# Altium footprint library CustomCase1.PcbLib: 6 footprints
Each footprint in its own frame and in the unit in brackets; x right, y up, seen from the top. Pads: shape width x height; smd on the part's side, far side on the other; paste and mask are expansions set on the pad; w line width, h text height; cw(c..) or ccw(c..) is an arc to the next point about the centre after c.
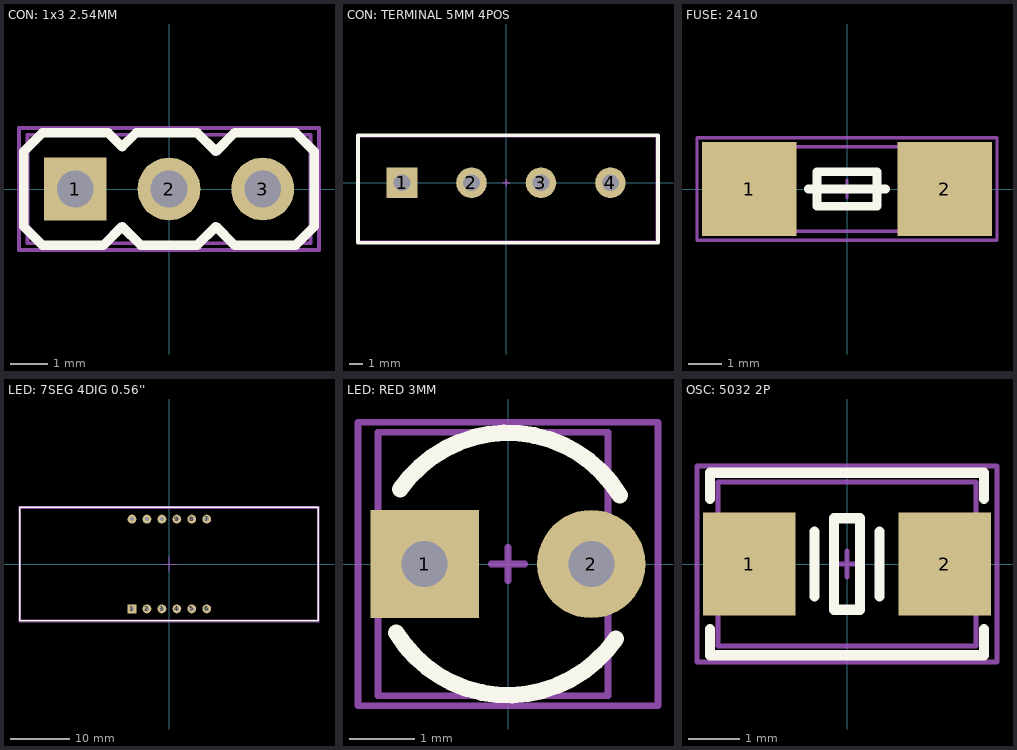
[diagram p0: the footprints below, top view; thin cyan lines are the x and y axes]

## CON: 1x3 2.54MM [mm]
pads (3):
  rect 1.7x1.7 hole 1: 1(-2.54,0)
  round 1.7 hole 1: 2(0,0) 3(2.54,0)
Top Overlay:
  lines w0.254: -3.937,-1.016 -3.429,-1.524 -1.778,-1.524 -1.27,-1.016 -0.762,-1.524 -0.254,-1.524 0.762,-1.524 1.27,-1.016 1.778,-1.524 3.429,-1.524 3.937,-1.016 3.937,1.016 3.429,1.524 2.413,1.524 1.778,1.524 1.27,1.016 0.762,1.524 -0.889,1.524 -1.27,1.143 -1.651,1.524 -3.429,1.524 -3.937,1.016 -3.937,-1.016
Top Assy:
  lines w0.1: -3.835,-1.473 3.835,-1.473 3.835,1.473 -3.835,1.473 -3.835,-1.473
Size Area:
  lines w0.1: -0.381,0 0.381,0 ; 0,-0.381 0,0.381 ; -4.064,-1.651 4.064,-1.651 4.064,1.651 -4.064,1.651 -4.064,-1.651
3D body "User Library-PinHeaderX3.STEP": height 8.51, standoff -3.68, extent -3.81,-1.46 3.81,1.46

## CON: TERMINAL 5MM 4POS [mm]
pads (4):
  rect 2.2x2.2 hole 1.2: 1(-7.5,0)
  round 2.2 hole 1.2: 2(-2.5,0) 3(2.5,0) 4(7.5,0)
Top Overlay:
  lines w0.254: -10.668,-4.318 10.922,-4.318 10.922,3.429 -10.668,3.429 -10.668,-4.318
Top Assy:
  lines w0.1: -10.613,-4.198 10.787,-4.198 10.787,3.302 -10.613,3.302 -10.613,-4.198
Size Area:
  lines w0.1: -0.254,0 0.254,0 ; 0,-0.254 0,0.254 ; -10.668,-4.318 -10.668,3.429 10.922,3.429 10.922,-4.318 -10.668,-4.318
3D body "terminal_blocks_a-tb508-tc03.stp": height 9.95, standoff -3.4, extent -10.613,-4.198 5.787,3.302
3D body "terminal_blocks_a-tb508-tc03.stp": height 9.95, standoff -3.4, extent -5.613,-4.198 10.787,3.302

## FUSE: 2410 [mm]
pads (2):
  rect 2.8x2.8 smd: 1(-2.9,0) 2(2.9,0)
Top Overlay:
  lines w0.254: -1.143,0 1.143,0 ; -0.889,-0.508 -0.889,0.508 0.889,0.508 0.889,-0.508 -0.889,-0.508
Top Assy:
  lines w0.1: -3.09,-1.25 -3.09,1.25 3.09,1.25 3.09,-1.25 -3.09,-1.25
Size Area:
  lines w0.1: -0.254,0 0.254,0 ; 0,-0.254 0,0.254 ; -4.445,-1.524 4.445,-1.524 4.445,1.524 -4.445,1.524 -4.445,-1.524
3D body "User Library-2410 fuse.step": height 2.15, standoff -0.01, extent -3.09,-1.25 3.09,1.25

## LED: 7SEG 4DIG 0.56'' [mm]
pads (12):
  rect 1.5x1.5 hole 0.7: 1(-6.35,-7.62)
  round 1.5 hole 0.7: 2(-3.81,-7.62) 3(-1.27,-7.62) 4(1.27,-7.62) 5(3.81,-7.62) 6(6.35,-7.62) 7(6.35,7.62) 8(3.81,7.62) 9(1.27,7.62) 10(-1.27,7.62) 11(-3.81,7.62) 12(-6.35,7.62)
Top Overlay:
  lines w0.254: -25.4,-9.652 25.273,-9.652 25.273,9.652 -25.4,9.652 -25.4,-9.652
Top Assy:
  lines w0.1: -25.2,-9.5 -25.2,9.5 25.2,9.5 25.2,-9.452 25.248,-9.5 -25.2,-9.5
Size Area:
  lines w0.1: -1.27,0 1.27,0 ; 0,-1.27 0,1.27 ; -25.527,-9.779 25.4,-9.779 25.4,9.779 -25.527,9.779 -25.527,-9.779
3D body "User Library-C-564 (7 segment 4 digit LED display).step": height 8, standoff -6.2, extent -25.2,-9.5 25.2,9.5

## LED: RED 3MM [mm]
pads (2):
  rect 1.65x1.65 hole 0.7: 1(-1.27,0)
  round 1.65 hole 0.7: 2(1.27,0)
Top Overlay:
  lines w0.254: -1.703,-1.048 ccw(c0,0) 1.644,-1.138 ; -1.644,1.138 cw(c0,0) 1.703,1.048
Top Assy:
  lines w0.1: -1.981,-2.007 -1.981,2.007 1.524,2.007 1.524,-2.007 -1.981,-2.007
Size Area:
  lines w0.1: -0.254,0 0.254,0 ; 0,-0.254 0,0.254 ; -2.286,-2.159 2.286,-2.159 2.286,2.159 -2.286,2.159 -2.286,-2.159
3D body "ALSRobot-LED Red 3mm.step": height 6.2, standoff -2, extent -1.979,-2.007 1.521,1.99

## OSC: 5032 2P [mm]
pads (2):
  rect 1.8x2 smd: 1(-1.9,0) 2(1.9,0)
Top Overlay:
  lines w0.2: -2.667,-1.27 -2.667,-1.778 2.667,-1.778 2.667,-1.27 ; -2.667,1.27 -2.667,1.778 2.667,1.778 2.667,1.27 ; -0.635,-0.635 -0.635,0.635 ; 0.635,-0.635 0.635,0.635 ; -0.254,-0.889 0.254,-0.889 0.254,0.889 -0.254,0.889 -0.254,-0.889
Top Assy:
  lines w0.1: -2.515,-1.6 2.515,-1.6 2.515,1.6 -2.515,1.6 -2.515,-1.6
Size Area:
  lines w0.1: -0.254,0 0.254,0 ; 0,-0.254 0,0.254 ; -2.921,-1.905 2.921,-1.905 2.921,1.905 -2.921,1.905 -2.921,-1.905
3D body "User Library-ABM3-1.STEP": height 1.3, standoff 0, extent -2.5,-1.6 2.5,1.6